# Altium schematic symbol library TPS563203DRLR.SchLib: 1 symbol
Pins are listed as number, name and electrical type; pins without a type are passive.

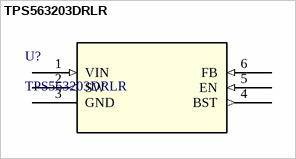
[diagram p0: symbol TPS563203DRLR]

## TPS563203DRLR
designator U?
4.2-V to 17-V input, 3-A synchronous buck converter in SOT563 6-SOT-5X3 -40 to 125; Manufacturer_Name: Texas Instruments; Type: Power Management; Copyright: Copyright (C) 2026 Ultra Librarian. All rights reserved.; Manufacturer_Part_Number: TPS563203DRLR; Datasheet: https://www.ti.com/lit/gpn/tps563203; RefDes: RefDes
footprint SOT_07SDRLR_TEX
pins: 1 VIN (in), 2 SW (out), 3 GND (power), 4 BST (out), 5 EN (in), 6 FB (in)